# Altium schematic symbol library ic.SchLib: 43 symbols
Pins are listed as number, name and electrical type; pins without a type are passive.

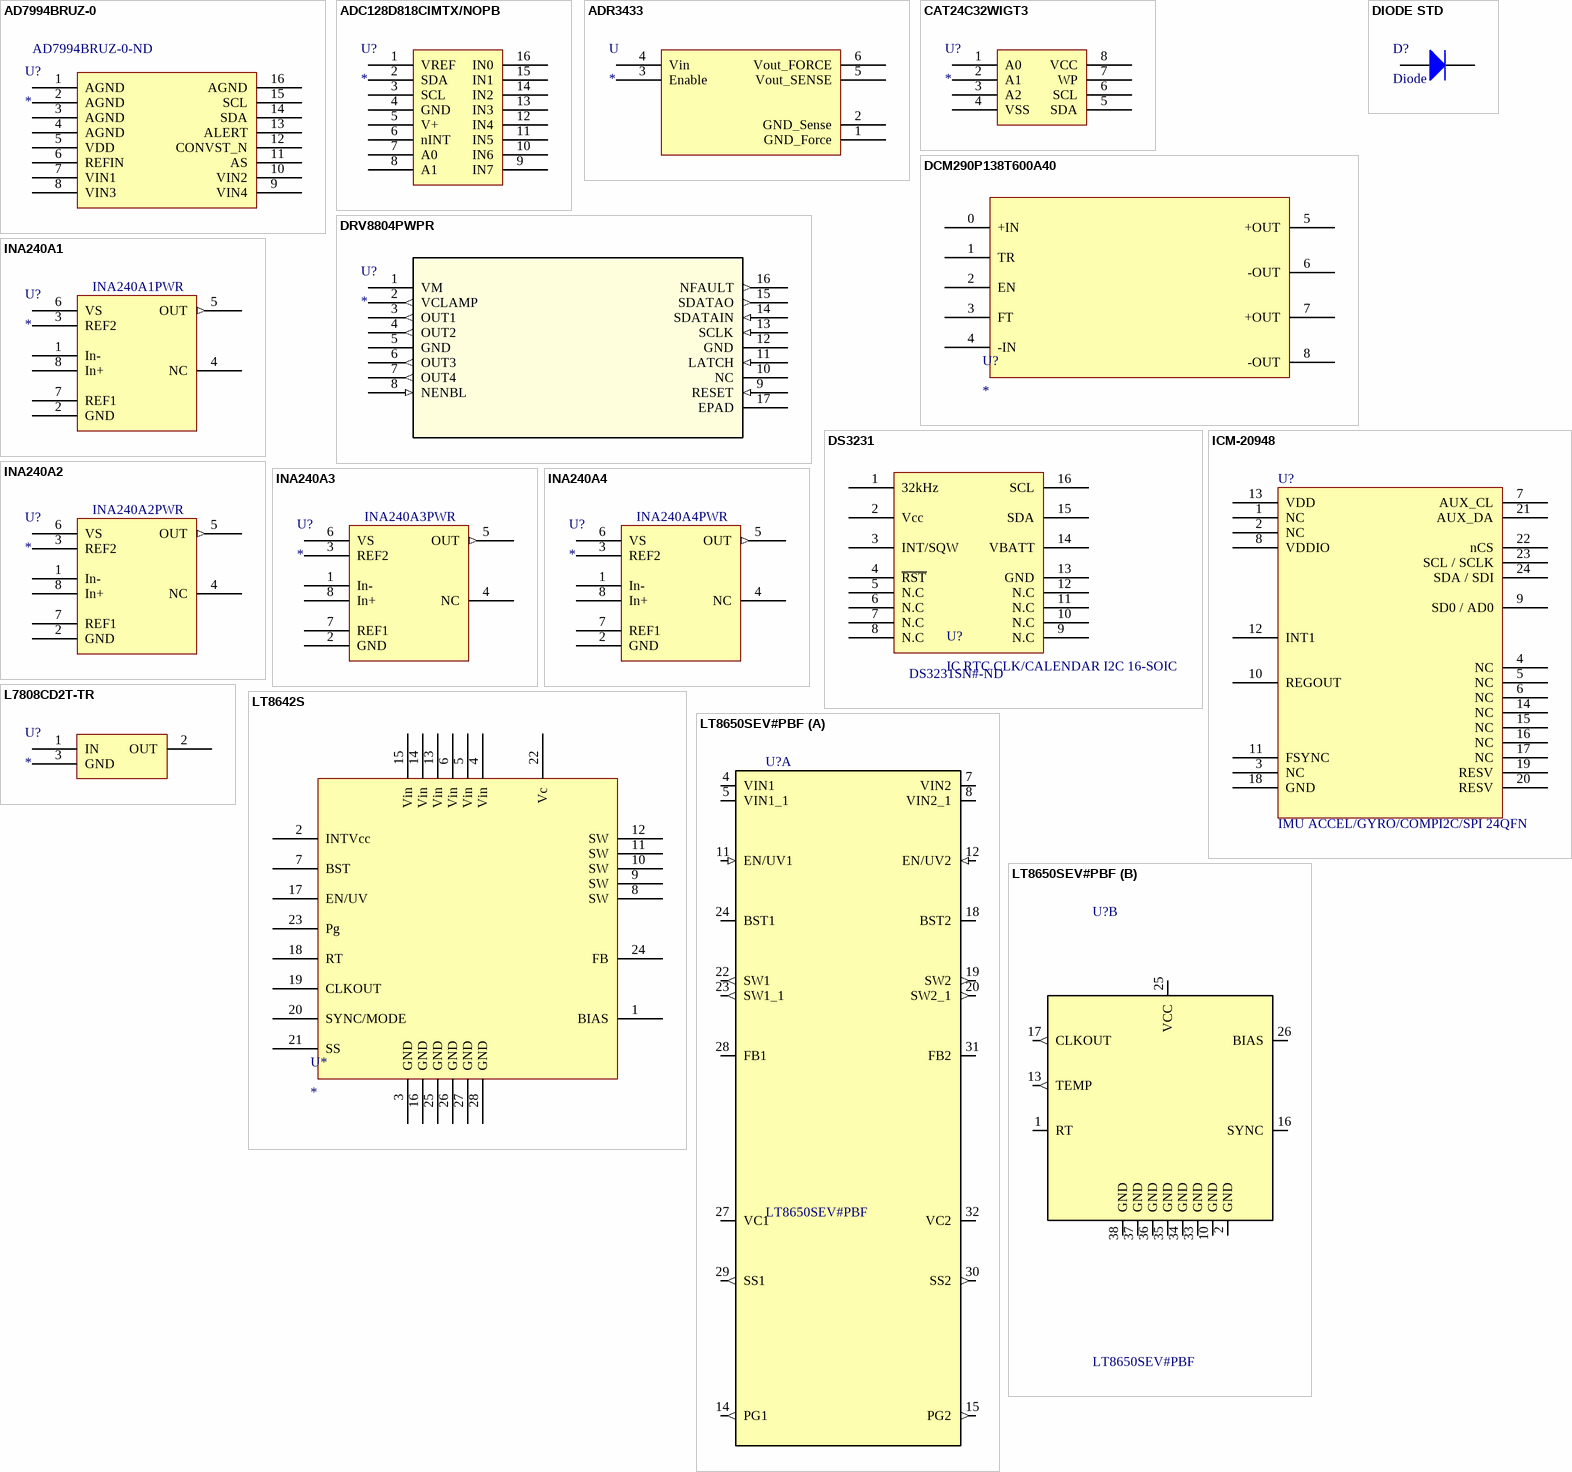
[diagram p0: symbols AD7994BRUZ-0 to LT8650SEV#PBF]

## AD7994BRUZ-0
designator U?  Supplier Part Number 1: AD7994BRUZ-0-ND
ANALOG DEVICES - AD7994BRUZ-0 - 12BIT ADC, 4CH I2C I/F, SMD, 7994; Resolution: 12b; Sampling Rate: 188KS/s; Number of A/D Converters: 1; Number of Analog Inputs: 4; Polarity: Unipolar; Max Power Dissipation: 6.05mW; Max Supply Voltage: 5.5V; Min Supply Voltage: 2.7V; Interface: I2C,2-Wire; Power Consumption: 2.31mW; Signal to Noise Ratio (SNR): 71dB; Number of Bits: 12; Power Dissipation: 6mW; Integral Nonlinearity (INL): 1LSB; Differential Nonlinearity: -0.9LSB; Input Capacitance: 30pF; Min Input Voltage: 1.2V; Full Scale Error: 2LSB; Supply Type: Single; Operating Supply Voltage: 5V; Supplier 1: Digi-Key; Manufacturer: Analog Devices; Manufacturer Part Number: AD7994BRUZ-0; Stock 1: 188; Pricing 1: 1=10.29000, 10=9.29400, 25=8.86160, 100=7.69460, 250=7.34876, 500=6.70034 (USD); RoHS: Yes; Case/Package: TSSOP; Number of Pins: 16; Contact Plating: Tin,Matte; Min Operating Temperature: -40°C; Max Operating Temperature: 85°C; Package Quantity: 96; Number of Channels: 4; Packaging: Rail/Tube; Number of Converters: 1; Number of Inputs: 4; Max Input Voltage: 5.5V; Number of Elements: 1; Length: 5mm; Height: 1.05mm; Width: 4.4mm; Radiation Hardening: No; Lead Free: Contains Lead; REACH SVHC: No SVHC; ComponentLink1URL: https://datasheet.ciiva.com/26799/ad7994bruz-0-26799795.pdf?src-supplier=IIIC; ComponentLink1Description: https://datasheet.ciiva.com/26799/ad7994bruz-0-26799795.pdf?src-supplier=IIIC; ComponentLink2URL: https://datasheet.ciiva.com/1702/1610633-1702675.pdf?src-supplier=Element14; ComponentLink2Description: https://datasheet.ciiva.com/1702/1610633-1702675.pdf?src-supplier=Element14; ComponentLink3URL: https://datasheet.ciiva.com/6664/ad7993-7994-6664968.pdf?src-supplier=Digi-Key; ComponentLink3Description: https://datasheet.ciiva.com/6664/ad7993-7994-6664968.pdf?src-supplier=Digi-Key; ComponentLink4URL: https://datasheet.ciiva.com/15147/getdatasheetpartid-143461-15147723.pdf?src-supplier=Verical; ComponentLink4Description: https://datasheet.ciiva.com/15147/getdatasheetpartid-143461-15147723.pdf?src-supplier=Verical; ComponentLink5URL: https://datasheet.ciiva.com/3037/ad7993-7994-3037820.pdf?src-supplier=Avnet; ComponentLink5Description: https://datasheet.ciiva.com/3037/ad7993-7994-3037820.pdf?src-supplier=Avnet
footprint TSOP65P660X120-16N (TSOP, 16-Leads, Body 5.00x4.40mm, Pitch 0.65mm, IPC Medium Density)
pins: 1 AGND, 2 AGND, 3 AGND, 4 AGND, 5 VDD, 6 REFIN, 7 VIN1, 8 VIN3, 9 VIN4, 10 VIN2, 11 AS, 12 CONVST_N, 13 ALERT, 14 SDA, 15 SCL, 16 AGND

## ADC128D818CIMTX/NOPB
designator U?
Analog to Digital Converters - ADC; Manufacturer: TI National Semiconductor; Manufacturer Part Number: ADC128D818CIMTX/NOPB; Resolution: 12b; Sampling Rate: 10000S/s; Number of A/D Converters: 1; Polarity: Unipolar; Max Supply Voltage: 5.5V; Min Supply Voltage: 3V; Interface: I2C; Number of Channels: 8; Max Power Dissipation: 33mW; Number of Converters: 4; Number of Bits: 12; Integral Nonlinearity (INL): -2LSB; Supply Type: Analog,Digital,Single; Power Consumption: 2mW; Power Dissipation: 2.01mW; Differential Nonlinearity: 1LSB; Supplier 1: Digi-Key; Stock 1: 21177; Pricing 1: 1=4.68000, 10=4.20700, 100=3.44660, 500=2.93402, 1000=2.47447 (USD); RoHS: Yes; Mount: Surface Mount; Case/Package: TSSOP; Number of Pins: 16; Contact Plating: Tin,Matte; Min Operating Temperature: -40°C; Max Operating Temperature: 125°C; Packaging: Tape and Reel; Package Quantity: 2500; Number of Inputs: 8; Number of Elements: 1; Radiation Hardening: No; Lead Free: Lead Free; ComponentLink1URL: https://datasheet.ciiva.com/14259/adc128d818-14259977.pdf?src-supplier=Avnet; ComponentLink1Description: https://datasheet.ciiva.com/14259/adc128d818-14259977.pdf?src-supplier=Avnet; Supplier Part Number 1: 296-41182-1-ND
footprint TSOP65P660X120-16N (TSOP, 16-Leads, Body 5.00x4.40mm, Pitch 0.65mm, IPC Medium Density)
pins: 1 VREF, 2 SDA, 3 SCL, 4 GND, 5 V+, 6 nINT, 7 A0, 8 A1, 9 IN7, 10 IN6, 11 IN5, 12 IN4, 13 IN3, 14 IN2, 15 IN1, 16 IN0

## ADR3433
designator U
IC VREF SERIES 3.3V SOT23-6; Manufacturer: Analog Devices; Manufacturer P/N: ADR3433ARJZ-R7; ComponentLink1Description: Digikey; ComponentLink1URL: https://www.digikey.com/product-detail/en/analog-devices-inc/ADR3433ARJZ-R7/ADR3433ARJZ-R7CT-ND/4909083; Digikey Link: https://www.digikey.com/product-detail/en/analog-devices-inc/ADR3433ARJZ-R7/ADR3433ARJZ-R7CT-ND/4909083; Digikey P/N: ADR3433ARJZ-R7CT-ND
footprint SOT95P280X145-6N (SOT23, 6-Leads, Body 2.90x2.80mm, Pitch 0.95mm, IPC Medium Density)
pins: 1 GND_Force (power), 2 GND_Sense (power), 3 Enable, 4 Vin, 5 Vout_SENSE, 6 Vout_FORCE

## CAT24C32WIGT3
designator U?
IC EEPROM 32K I2C 1MHZ 8SOIC; Manufacturer: ON Semiconductor; Manufacturer Part Number: CAT24C32WIGT3; Interface: I2C,Serial,2-Wire; Min Supply Voltage: 1.7V; Max Supply Voltage: 5.5V; Access Time: 3500ns; Frequency: 400kHz; Nominal Supply Current: 2mA; Density: 32Kb; Number of Words: 4096; Operating Supply Voltage: 5V; Max Frequency: 100kHz; Supplier 1: Newark; Stock 1: 0; RoHS: Yes; Mount: Surface Mount; Case/Package: SOIC; Number of Pins: 8; Contact Plating: Gold; Min Operating Temperature: -40°C; Max Operating Temperature: 85°C; Package Quantity: 1; Packaging: Tape and Reel; Memory Type: EEPROM; Memory Size: 32Kb; Length: 5mm; Height: 1.5mm; Width: 4mm; Radiation Hardening: No; REACH SVHC: No SVHC; Lead Free: Lead Free; Halogen Free: Halogen Free; ComponentLink1URL: https://datasheet.ciiva.com/15123/getdatasheetpartid-144155-15123242.pdf?src-supplier=Verical; ComponentLink1Description: https://datasheet.ciiva.com/15123/getdatasheetpartid-144155-15123242.pdf?src-supplier=Verical; ComponentLink2URL: https://datasheet.ciiva.com/26870/cat24c32wi-gt3-26870507.pdf?src-supplier=IIIC; ComponentLink2Description: https://datasheet.ciiva.com/26870/cat24c32wi-gt3-26870507.pdf?src-supplier=IIIC; ComponentLink3URL: https://datasheet.ciiva.com/1904/cat24c32-d-1904849.pdf?src-supplier=Digi-Key; ComponentLink3Description: https://datasheet.ciiva.com/1904/cat24c32-d-1904849.pdf?src-supplier=Digi-Key; ComponentLink4URL: https://datasheet.ciiva.com/1904/cat24c32-d-1904850.pdf?src-supplier=Digi-Key; ComponentLink4Description: https://datasheet.ciiva.com/1904/cat24c32-d-1904850.pdf?src-supplier=Digi-Key; ComponentLink5URL: https://datasheet.ciiva.com/1904/cat24c32-d-1904851.pdf?src-supplier=Digi-Key; ComponentLink5Description: https://datasheet.ciiva.com/1904/cat24c32-d-1904851.pdf?src-supplier=Digi-Key; ComponentLink6URL: https://datasheet.ciiva.com/16393/cat24c32-d-16393221.pdf?src-supplier=Future+Electronics; ComponentLink6Description: https://datasheet.ciiva.com/16393/cat24c32-d-16393221.pdf?src-supplier=Future+Electronics; ComponentLink7URL: https://datasheet.ciiva.com/16471/cat24c32-d-16471335.pdf?src-supplier=Avnet+Asia; ComponentLink7Description: https://datasheet.ciiva.com/16471/cat24c32-d-16471335.pdf?src-supplier=Avnet+Asia; ComponentLink8URL: https://datasheet.ciiva.com/3185/cat24c32-d-3185118.pdf?src-supplier=Avnet; ComponentLink8Description: https://datasheet.ciiva.com/3185/cat24c32-d-3185118.pdf?src-supplier=Avnet; ComponentLink9URL: https://datasheet.ciiva.com/22618/1696760-22618478.pdf?src-supplier=Element14; ComponentLink9Description: https://datasheet.ciiva.com/22618/1696760-22618478.pdf?src-supplier=Element14; ComponentLink10URL: https://datasheet.ciiva.com/26216/cat24c32-d-26216670.pdf?src-supplier=Avnet+Europe; ComponentLink10Description: https://datasheet.ciiva.com/26216/cat24c32-d-26216670.pdf?src-supplier=Avnet+Europe; Supplier Part Number 1: 06R0561
footprint SOP127P600X175-8N (SOP, 8-Leads, Body 4.91x3.90mm, Pitch 1.27mm, IPC Medium Density)
pins: 1 A0, 2 A1, 3 A2, 4 VSS, 5 SDA, 6 SCL, 7 WP, 8 VCC

## DCM290P138T600A40
designator U?
DC DC CONVERTER 13.8V 600W; Manufacturer: Vicor; Manufacturer P/N: DCM290P138T600A40; Digikey Link: https://www.digikey.com/product-detail/en/vicor-corporation/DCM290P138T600A40/1102-5388-ND/4860626; Digikey P/N: 1102-5388-ND
footprint DCM290y138x600A40
pins: 0 +IN, 1 TR, 2 EN, 3 FT, 4 -IN, 5 +OUT, 6 -OUT, 7 +OUT, 8 -OUT

## DIODE STD
designator D?, comment Diode
DIODE GEN PURP 200V 2A SOD123FL; Manufacturer: ON SEMI; Manufacturer P/N: NHP220SFT3G; Digikey Link: https://www.digikey.com/product-detail/en/on-semiconductor/NHP220SFT3G/NHP220SFT3GOSCT-ND/5801747; Digikey P/N: NHP220SFT3GOSCT-ND
footprint SODFL360X110-2N (SODFL, 2-Leads, Body 1.65x3.60mm, IPC Medium Density)
pins: 1 A, 2 K

## DRV8804PWPR
designator U?
IC MOTOR DRIVER SERIAL 16HTSSOP; Manufacturer: Texas Instruments; Manufacturer P/N: DRV8804PWPR; Built_By: EMA_UL_Team; C: Copyright (C) 2015 Accelerated Designs. All rights reserved; RefDes: RefDes; Type: DEV; Value: Value; Digikey P/N: 296-36584-1-ND; Digikey Link: https://www.digikey.sg/product-detail/en/texas-instruments/DRV8804PWPR/296-36584-1-ND/4341280
footprint PWP16_3P4X2P46-M
pins: 1 VM (power), 2 VCLAMP (out), 3 OUT1 (out), 4 OUT2 (out), 5 GND (power), 6 OUT3 (out), 7 OUT4 (out), 8 NENBL (in), 9 RESET (in), 10 NC, 11 LATCH (in), 12 GND (power), 13 SCLK (in), 14 SDATAIN (in), 15 SDATAO (out), 16 NFAULT (out), 17 EPAD

## DS3231
designator U?, comment IC RTC CLK/CALENDAR I2C 16-SOIC  Supplier Part Number 1: DS3231SN#-ND
Manufacturer: Maxim; Manufacturer Part Number: DS3231SN#; Max Supply Voltage: 5.5V; Min Supply Voltage: 2.3V; Logic Function: Clock; Time Format: HH:MM:SS; Date Format: YY-MM-DD-dd; Operating Supply Voltage: 3.3V; Interface: I2C,Serial,2-Wire; Number of Outputs: 1; Frequency: 32.768kHz; Supplier 1: Digi-Key; Stock 1: 2824; Pricing 1: 1=9.61, 10=8.685, 25=8.2812, 100=7.1906, 250=6.8674, 500=6.26146, 1000=5.45353 (USD); Mount: Surface Mount; Case/Package: SOIC; Number of Pins: 16; Weight: 0.023492oz; Min Operating Temperature: -40°C; Max Operating Temperature: 85°C; Package Quantity: 46; Packaging: Bulk; Termination: SMD/SMT; Length: 10.5mm; Height: 2.35mm; Width: 7.6mm; Radiation Hardening: No; REACH SVHC: Unknown; Lead Free: Lead Free; ComponentLink1URL: https://datasheets.maximintegrated.com/en/ds/DS3231-DS3231S.pdf?src-supplier=Digi-Key; ComponentLink1Description: https://datasheets.maximintegrated.com/en/ds/DS3231-DS3231S.pdf?src-supplier=Digi-Key; ComponentLink2URL: http://datasheets.maxim-ic.com/en/ds/DS3231.pdf?src-supplier=Avnet+Europe; ComponentLink2Description: http://datasheets.maxim-ic.com/en/ds/DS3231.pdf?src-supplier=Avnet+Europe; ComponentLink3URL: http://www.farnell.com/datasheets/1675711.pdf?src-supplier=Element14; ComponentLink3Description: http://www.farnell.com/datasheets/1675711.pdf?src-supplier=Element14; ComponentLink4URL: http://www.mouser.com/ds/2/256/DS3231-102175.pdf?src-supplier=Mouser; ComponentLink4Description: http://www.mouser.com/ds/2/256/DS3231-102175.pdf?src-supplier=Mouser; ComponentLink5URL: http://datasheets.maximintegrated.com/en/ds/DS3231.pdf?src-supplier=Avnet; ComponentLink5Description: http://datasheets.maximintegrated.com/en/ds/DS3231.pdf?src-supplier=Avnet; ComponentLink6URL: http://datasheet.iiic.cc/maxim/DS3231SN_.pdf?src-supplier=IIIC; ComponentLink6Description: http://datasheet.iiic.cc/maxim/DS3231SN_.pdf?src-supplier=IIIC
footprint SOP127P1030X265-16N (SOP, 16-Leads, Body 11.55x7.50mm, Pitch 1.27mm, IPC Medium Density)
pins: 1 32kHz, 2 Vcc, 3 INT/SQW, 4 ~{RST}, 5 N.C, 6 N.C, 7 N.C, 8 N.C, 9 N.C, 10 N.C, 11 N.C, 12 N.C, 13 GND, 14 VBATT, 15 SDA, 16 SCL

## ICM-20948
designator U?, comment IMU ACCEL/GYRO/COMPI2C/SPI 24QFN
Manufacturer: TDK InvenSense; Manufacturer P/N: ICM-20948; Digikey Link: https://www.digikey.com/product-detail/en/tdk-invensense/ICM-20948/1428-1123-1-ND/7062698; Digikey P/N: 1428-1123-1-ND
footprint QFN40P300X300X105-25N
footprint QFN40P300X300X105_HS-25N (QFN, 24-Leads, Body 3.00x3.00mm, Pitch 0.40mm, Thermal Pad 1.70x1.54mm, IPC Medium Density)
pins: 1 NC, 2 NC, 3 NC, 4 NC, 5 NC, 6 NC, 7 AUX_CL, 8 VDDIO, 9 SD0 / AD0, 10 REGOUT, 11 FSYNC, 12 INT1, 13 VDD, 14 NC, 15 NC, 16 NC, 17 NC, 18 GND, 19 RESV, 20 RESV, 21 AUX_DA, 22 nCS, 23 SCL / SCLK, 24 SDA / SDI

## INA240A1
designator U?  Manufacturer P/N: INA240A1PWR
IC AMP CURRENT SENSE 8-TSSOP 20V/V; Manufacturer: TI; Number of Circuits: 1; Slew Rate: 2V/µs; -3db Bandwidth: 400kHz; Input Bias Current: 90uA; Input Offset Voltage (Vos): 5uV; Operating Supply Current: 1.8mA; Digikey P/N: 296-45088-1-ND; Digikey Link: https://www.digikey.com/product-detail/en/texas-instruments/INA240A1PWR/296-45088-1-ND/6562101; Supplier 1: Digi-Key; Manufacturer Part Number: INA240A1PWR; Stock 1: 19438; Pricing 1: 1=2.65, 10=2.377, 25=2.2428, 100=1.7943, 250=1.56996, 500=1.52512, 1000=1.21113 (USD); Mount: Surface Mount; Case/Package: TSSOP; Min Operating Temperature: -40°C; Max Operating Temperature: 125°C; Packaging: Tape and Reel; Lead Free: Lead Free; ComponentLink1URL: http://www.ti.com/lit/ds/symlink/ina240.pdf?src-supplier=Farnell; ComponentLink1Description: http://www.ti.com/lit/ds/symlink/ina240.pdf?src-supplier=Farnell; ComponentLink2URL: http://www.ti.com/lit/ds/symlink/ina240.pdf?src-supplier=Digi-Key; ComponentLink2Description: http://www.ti.com/lit/ds/symlink/ina240.pdf?src-supplier=Digi-Key; ComponentLink3URL: http://www.ti.com/lit/ds/symlink/ina240.pdf?src-supplier=Newark; ComponentLink3Description: http://www.ti.com/lit/ds/symlink/ina240.pdf?src-supplier=Newark; Supplier Part Number 1: 296-45088-6-ND
footprint SOIC127P600X175-8N (SOIC, 8-Leads, Body 4.90x3.90mm, Pitch 1.27mm, IPC Medium Density)
pins: 1 In-, 2 GND (power), 3 REF2, 4 NC, 5 OUT (out), 6 VS (power), 7 REF1, 8 In+

## INA240A2
designator U?  Manufacturer Part Number: INA240A2PWR
IC AMP CURRENT SENSE 8-TSSOP 50V/V; Manufacturer: Texas Instruments; Number of Circuits: 1; Slew Rate: 2V/µs; -3db Bandwidth: 400kHz; Input Bias Current: 90uA; Input Offset Voltage (Vos): 5uV; Operating Supply Current: 1.8mA; Supplier 1: Digi-Key; Stock 1: 10118; Pricing 1: 1=2.65, 10=2.377, 25=2.2428, 100=1.7943, 250=1.56996, 500=1.52512, 1000=1.21113 (USD); Mount: Surface Mount; Case/Package: TSSOP; Number of Pins: 8; Min Operating Temperature: -40°C; Max Operating Temperature: 125°C; Packaging: Tape and Reel; Lead Free: Lead Free; ComponentLink1URL: http://www.ti.com/lit/ds/symlink/ina240.pdf?src-supplier=Digi-Key; ComponentLink1Description: http://www.ti.com/lit/ds/symlink/ina240.pdf?src-supplier=Digi-Key; ComponentLink2URL: http://www.ti.com/general/docs/lit/getliterature.tsp?genericPartNumber=INA240&fileType=pdf&src-supplier=Farnell; ComponentLink2Description: http://www.ti.com/general/docs/lit/getliterature.tsp?genericPartNumber=INA240&fileType=pdf&src-supplier=Farnell; Supplier Part Number 1: 296-45089-1-ND
footprint SOIC127P600X175-8N (SOIC, 8-Leads, Body 4.90x3.90mm, Pitch 1.27mm, IPC Medium Density)
pins: 1 In-, 2 GND (power), 3 REF2, 4 NC, 5 OUT (out), 6 VS (power), 7 REF1, 8 In+

## INA240A3
designator U?  Manufacturer Part Number: INA240A3PWR
IC AMP CURRENT SENSE 8-TSSOP 100V/V; Manufacturer: Texas Instruments; Number of Circuits: 1; Slew Rate: 2V/µs; -3db Bandwidth: 400kHz; Input Bias Current: 90uA; Input Offset Voltage (Vos): 5uV; Operating Supply Current: 1.8mA; Supplier 1: Digi-Key; Stock 1: 4680; Pricing 1: 1=2.65, 10=2.377, 25=2.2428, 100=1.7943, 250=1.56996, 500=1.52512, 1000=1.21113 (USD); Mount: Surface Mount; Case/Package: TSSOP; Number of Pins: 8; Min Operating Temperature: -40°C; Max Operating Temperature: 125°C; Packaging: Tape and Reel; ComponentLink1URL: http://www.ti.com/general/docs/lit/getliterature.tsp?genericPartNumber=INA240&fileType=pdf&src-supplier=Farnell; ComponentLink1Description: http://www.ti.com/general/docs/lit/getliterature.tsp?genericPartNumber=INA240&fileType=pdf&src-supplier=Farnell; ComponentLink2URL: http://www.ti.com/lit/ds/symlink/ina240.pdf?src-supplier=Digi-Key; ComponentLink2Description: http://www.ti.com/lit/ds/symlink/ina240.pdf?src-supplier=Digi-Key; Supplier Part Number 1: 296-45090-1-ND
footprint SOIC127P600X175-8N (SOIC, 8-Leads, Body 4.90x3.90mm, Pitch 1.27mm, IPC Medium Density)
pins: 1 In-, 2 GND (power), 3 REF2, 4 NC, 5 OUT (out), 6 VS (power), 7 REF1, 8 In+

## INA240A4
designator U?  Manufacturer Part Number: INA240A4PWR
IC AMP CURRENT SENSE 8-TSSOP 200V/V; Manufacturer: Texas Instruments; Supplier 1: Digi-Key; Stock 1: 1250; Pricing 1: 1=2.65, 10=2.377, 25=2.2428, 100=1.7943, 250=1.56996, 500=1.52512, 1000=1.21113 (USD); Case/Package: TSSOP; Number of Pins: 8; Min Operating Temperature: -40°C; Max Operating Temperature: 125°C; Lead Free: Lead Free; ComponentLink1URL: http://www.ti.com/lit/ds/symlink/ina240.pdf?src-supplier=Digi-Key; ComponentLink1Description: http://www.ti.com/lit/ds/symlink/ina240.pdf?src-supplier=Digi-Key; ComponentLink2URL: http://www.ti.com/general/docs/suppproductinfo.tsp?distId=10&amp;gotoUrl=http%3A%2F%2Fwww.ti.com%2Flit%2Fgpn%2Fina240&src-supplier=Digi-Key; ComponentLink2Description: http://www.ti.com/general/docs/suppproductinfo.tsp?distId=10&amp;gotoUrl=http%3A%2F%2Fwww.ti.com%2Flit%2Fgpn%2Fina240&src-supplier=Digi-Key; Supplier Part Number 1: 296-45091-1-ND
footprint SOIC127P600X175-8N (SOIC, 8-Leads, Body 4.90x3.90mm, Pitch 1.27mm, IPC Medium Density)
pins: 1 In-, 2 GND (power), 3 REF2, 4 NC, 5 OUT (out), 6 VS (power), 7 REF1, 8 In+

## L7808CD2T-TR
designator U?
IC REG LINEAR 8V 1.5A D2PAK; Manufacturer: STMicroelectronics; Manufacturer Part Number: L7808CD2T-TR; Number of Outputs: 1; Max Input Voltage: 35V; Polarity: Positive; Quiescent Current: 8mA; Output Type: Fixed; Dropout Voltage: 2V; Min Input Voltage: 10V; Power Supply Rejection Ratio (PSRR): 56dB; Supplier 1: Digi-Key; Stock 1: 2402; Pricing 1: 1=0.71000, 10=0.62500, 100=0.47950, 500=0.37904 (USD); RoHS: Yes; Mount: Surface Mount; Case/Package: TO-263; Number of Pins: 3; Min Operating Temperature: 0°C; Max Operating Temperature: 125°C; Max Output Current: 1.5A; Output Voltage: 8V; Packaging: Tape and Reel; Output Current: 1.5A; Package Quantity: 1; Number of Regulators: 1; Min Output Voltage: 8V; Length: 10.4mm; Height: 4.6mm; Width: 9.35mm; Radiation Hardening: No; Lead Free: Lead Free; ComponentLink1URL: https://datasheet.ciiva.com/3224/cd00000444-3224949.pdf?src-supplier=Avnet; ComponentLink1Description: https://datasheet.ciiva.com/3224/cd00000444-3224949.pdf?src-supplier=Avnet; ComponentLink2URL: https://datasheet.ciiva.com/1160/1696820-1160326.pdf?src-supplier=Element14; ComponentLink2Description: https://datasheet.ciiva.com/1160/1696820-1160326.pdf?src-supplier=Element14; ComponentLink3URL: https://datasheet.ciiva.com/16592/cd00000444-16592985.pdf?src-supplier=Avnet+Europe; ComponentLink3Description: https://datasheet.ciiva.com/16592/cd00000444-16592985.pdf?src-supplier=Avnet+Europe; ComponentLink4URL: https://datasheet.ciiva.com/2042/cd00000444-2042986.pdf?src-supplier=Digi-Key; ComponentLink4Description: https://datasheet.ciiva.com/2042/cd00000444-2042986.pdf?src-supplier=Digi-Key; ComponentLink5URL: https://datasheet.ciiva.com/2042/cd00000444-2042987.pdf?src-supplier=Digi-Key; ComponentLink5Description: https://datasheet.ciiva.com/2042/cd00000444-2042987.pdf?src-supplier=Digi-Key; ComponentLink6URL: https://datasheet.ciiva.com/2042/cd00000444-2042988.pdf?src-supplier=Digi-Key; ComponentLink6Description: https://datasheet.ciiva.com/2042/cd00000444-2042988.pdf?src-supplier=Digi-Key; ComponentLink7URL: https://datasheet.ciiva.com/16210/cd00000444-16210797.pdf?src-supplier=Future+Electronics; ComponentLink7Description: https://datasheet.ciiva.com/16210/cd00000444-16210797.pdf?src-supplier=Future+Electronics; ComponentLink8URL: https://datasheet.ciiva.com/4882/cd00000444-4882654.pdf?src-supplier=Mouser; ComponentLink8Description: https://datasheet.ciiva.com/4882/cd00000444-4882654.pdf?src-supplier=Mouser; Supplier Part Number 1: 497-1174-1-ND
footprint DPAK254P1542X440-3N (D2-PAK, 3-Pads, Body 7.78x8.56mm (max), IPC Medium Density)
pins: 1 IN, 2 OUT, 3 GND

## LT8642S
designator U*
18V, 10A Synchronous / Step-Down Silent Switcher 2
footprint QFN50P400X400X72_HS-25N (QFN, 24-Leads, Body 4.00x4.00mm, Pitch 0.50mm, Thermal Pad 2.45x2.45mm, IPC Medium Density)
pins: 1 BIAS, 2 INTVcc, 3 GND (power), 4 Vin (power), 5 Vin (power), 6 Vin (power), 7 BST, 8 SW, 9 SW, 10 SW, 11 SW, 12 SW, 13 Vin (power), 14 Vin (power), 15 Vin (power), 16 GND (power), 17 EN/UV, 18 RT, 19 CLKOUT, 20 SYNC/MODE, 21 SS, 22 Vc, 23 Pg, 24 FB, 25 GND (power), 26 GND (power), 27 GND (power), 28 GND (power)

## LT8650SEV#PBF
designator U?
LT8650S - Dual Channel 4A, 42V, Synchronous Step-Down Silent Switcher 2 with 6.2ÂµA Quiescent Current; MF: Linear Technology; MP: LT8650SEV#PBF; SnapEDA_Link: https://www.snapeda.com/parts/LT8650SEV%23PBF/Linear%20Technology/Analog%20Devices/view-part/?ref=snap; Digi-Key_Part_Number: LT8650SEV#PBF-ND; Package: LQFN-32 Linear Technology; Digi-Key_Purchase_URL: https://www.digikey.com/product-detail/en/linear-technology-analog-devices/LT8650SEV-PBF/LT8650SEV-PBF-ND/7702365?utm_source=snapeda&utm_medium=aggregator&utm_campaign=symbol; Value: *
footprint QFN50P600X400X103-32N240X440
part A pins: 4 VIN1 (power), 5 VIN1_1 (power), 7 VIN2 (power), 8 VIN2_1 (power), 11 EN/UV1 (in), 12 EN/UV2 (in), 14 PG1 (out), 15 PG2 (out), 18 BST2 (io), 19 SW2 (out), 20 SW2_1 (out), 22 SW1 (out), 23 SW1_1 (out), 24 BST1 (io), 27 VC1 (power), 28 FB1 (io), 29 SS1 (out), 30 SS2 (out), 31 FB2 (io), 32 VC2 (power)
part B pins: 1 RT, 2 GND, 10 GND, 13 TEMP (out), 16 SYNC, 17 CLKOUT (out), 25 VCC, 26 BIAS (io), 33 GND, 34 GND, 35 GND, 36 GND, 37 GND, 38 GND

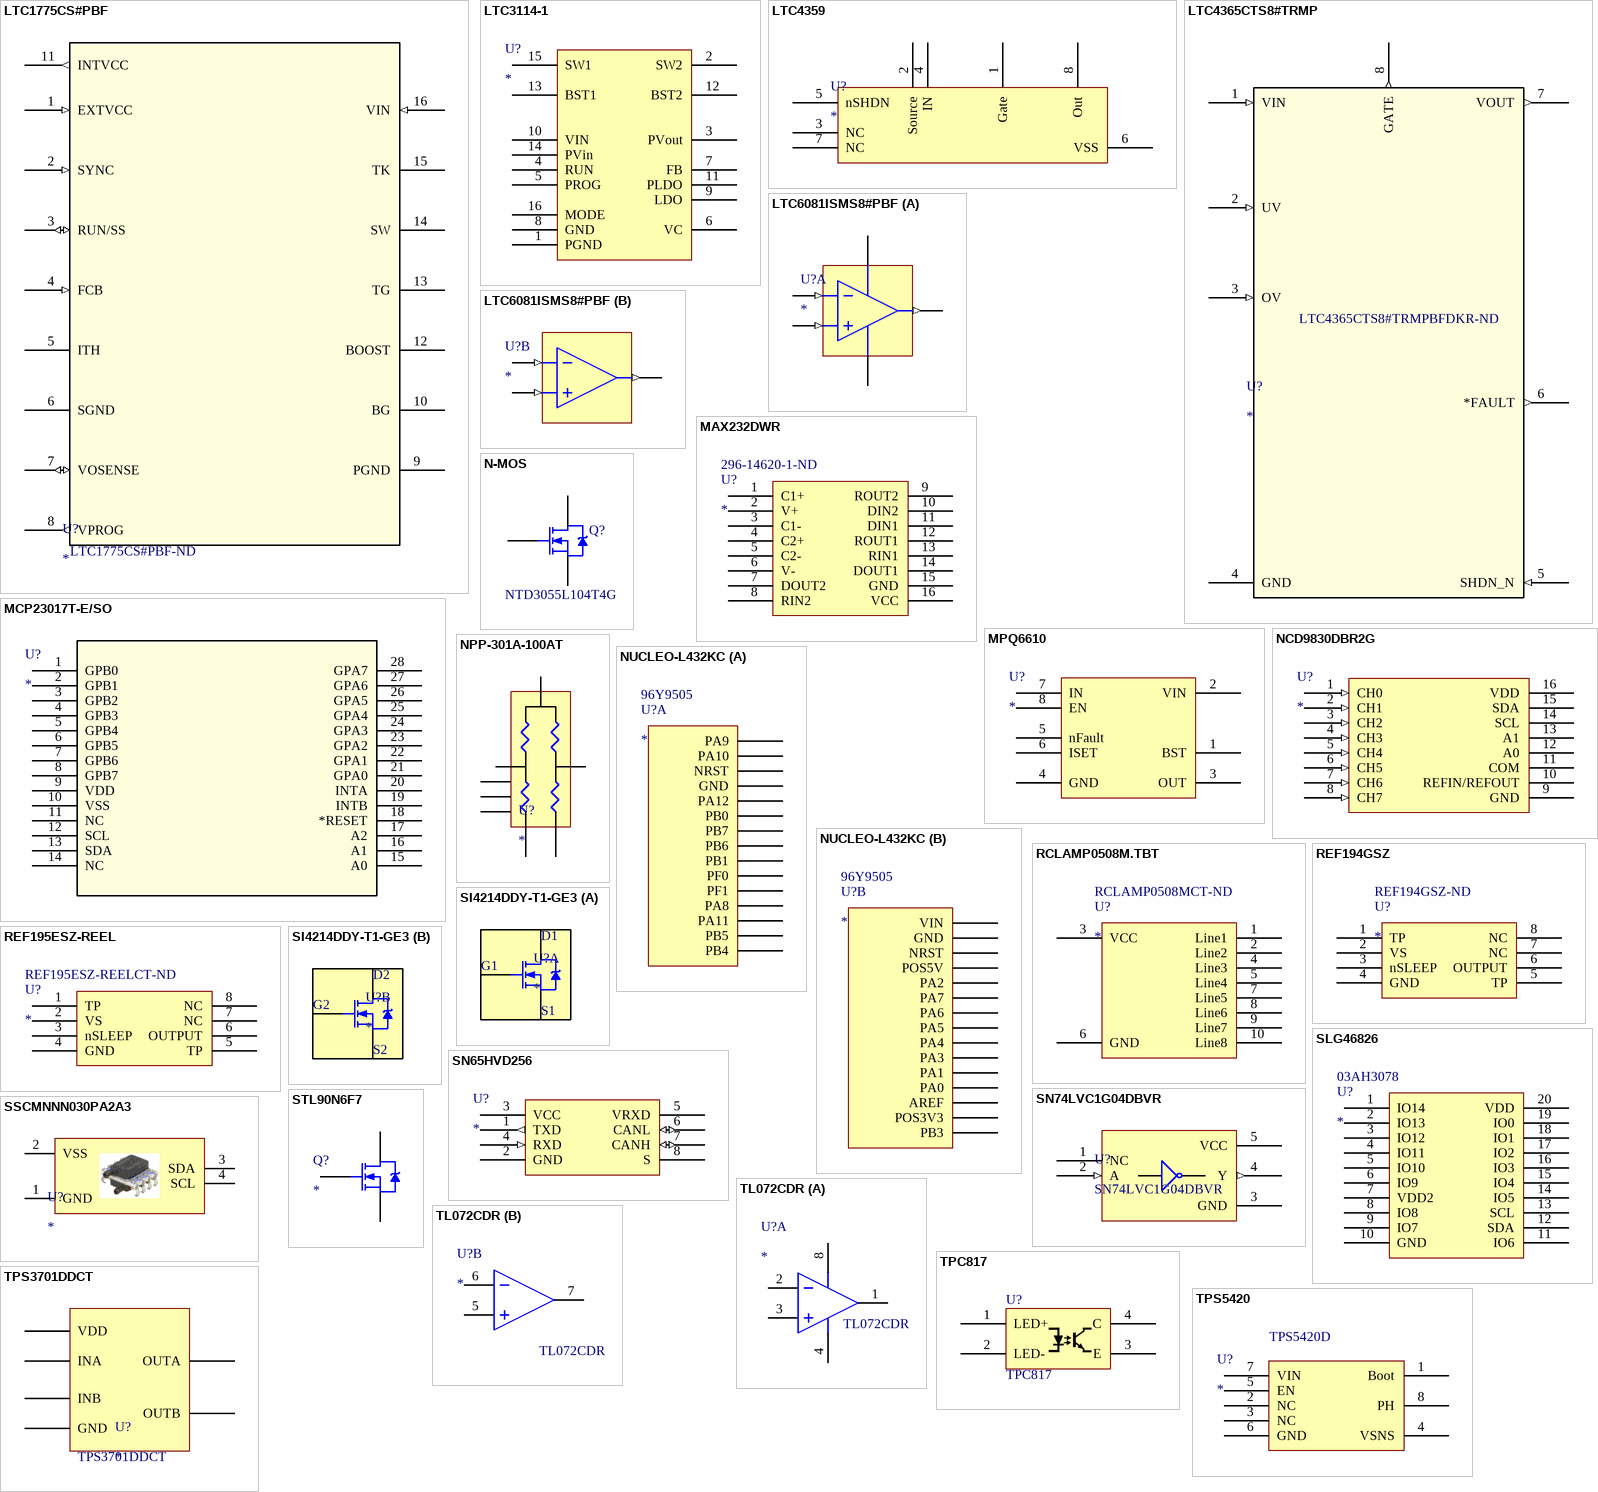
[diagram p1: symbols LTC1775CS#PBF to TPS5420]

## LTC1775CS#PBF
designator U?  Supplier Part Number 1: LTC1775CS#PBF-ND
Buck, Buck-Boost Regulator Positive or Negative Output Step-Down, Step-Up/Step-Down DC-DC Controller IC 16-SOIC; Manufacturer_Part_Number: LTC1775CS#PBF; Vendor: Linear Technology; RefDes: RefDes; Type: DEV; Value: Value; Supplier 1: Digi-Key
footprint SO-16_S
pins: 1 EXTVCC (in), 2 SYNC (in), 3 RUN/SS (io), 4 FCB (in), 5 ITH, 6 SGND (power), 7 VOSENSE (io), 8 VPROG (out), 9 PGND (power), 10 BG, 11 INTVCC (out), 12 BOOST, 13 TG, 14 SW, 15 TK, 16 VIN (in)

## LTC3114-1
designator U?
40V, 1A Synchronous Buck-Boost DC/DC Converter with Programmable Output Current; Manufacturer: Analog Devices / Linear Technology; Manufacturer Part Number: LTC3114EFE-1#TRPBF; Number of Outputs: 1; Min Input Voltage: 2.2V; Min Output Voltage: 2.7V; Switching Frequency: 1.2MHz; Synchronous Rectifier: Yes; Efficiency: 96%; Output Type: Adjustable; Output Configuration: Positive; Supplier 1: Digi-Key; Stock 1: 2151; Pricing 1: 1=10.01000, 25=7.35000, 100=5.49400, 250=5.21932, 500=5.10160 (USD); RoHS: Yes; Mount: Surface Mount; Case/Package: TSSOP; Number of Pins: 16; Min Operating Temperature: -40°C; Max Operating Temperature: 125°C; Packaging: Tape and Reel; Max Input Voltage: 40V; Max Output Voltage: 40V; Output Current: 1A; Output Voltage: 2.7V; Topology: Buck-Boost; ComponentLink1URL: http://components.arrow.com/part/dataview/66446920S858405N7433?src-supplier=Arrow; ComponentLink1Description: http://components.arrow.com/part/dataview/66446920S858405N7433?src-supplier=Arrow; ComponentLink2URL: http://www.linear.com/docs/44756?src-supplier=Digi-Key; ComponentLink2Description: http://www.linear.com/docs/44756?src-supplier=Digi-Key; Supplier Part Number 1: LTC3114EFE-1#TRPBFCT-ND
footprint TSOP65P640X110_HS-17N (TSOP, 16-Leads, Body 5.00x4.40mm, Pitch 0.65mm, Thermal Pad 3.58x2.94mm, IPC Medium Density)
pins: 1 PGND, 2 SW2, 3 PVout, 4 RUN, 5 PROG, 6 VC, 7 FB, 8 GND, 9 LDO, 10 VIN, 11 PLDO, 12 BST2, 13 BST1, 14 PVin, 15 SW1, 16 MODE

## LTC4359
designator U?
IC OR CTRLR N+1 8MSOP; Manufacturer: Analog Devices; Manufacturer P/N: LTC4359; Digikey Link: https://www.digikey.com/product-detail/en/linear-technology-analog-devices/LTC4359HMS8-TRPBF/LTC4359HMS8-TRPBFCT-ND/8275335; Digikey P/N: LTC4359HMS8#TRPBFCT-ND
footprint 8SOP
pins: 1 Gate, 2 Source, 3 NC, 4 IN, 5 nSHDN, 6 VSS, 7 NC, 8 Out

## LTC4365CTS8#TRMP
designator U?  Supplier Part Number 1: LTC4365CTS8#TRMPBFDKR-ND
Overvoltage, / Undervoltage and Reverse / Supply Protection Controller; Manufacturer_Part_Number: LTC4365CTS8#TRMPBF; Vendor: Linear Technology; RefDes: RefDes; Type: DEV; Value: Value; Supplier 1: Digi-Key
footprint TSOT-23_TS8
pins: 1 VIN (in), 2 UV (in), 3 OV (in), 4 GND (power), 5 SHDN_N (in), 6 *FAULT (out), 7 VOUT (out), 8 GATE (out)

## LTC6081ISMS8#PBF
designator U?
IC OPAMP GP 3.5MHZ RRO 8MSOP; Manufacturer: Linear Technology; Manufacturer P/N: LTC6081IMS8#PBF; Digikey Link: https://www.digikey.com/product-detail/en/linear-technology-analog-devices/LTC6081IMS8-PBF/LTC6081IMS8-PBF-ND/1650931; Digikey P/N: LTC6081IMS8#PBF-ND
footprint TSOP65P490X110-8N (TSOP, 8-Leads, Body 3.00x3.00mm, Pitch 0.65mm, IPC Medium Density)
part A pins: 1 OUT (out), 2 IN- (in), 3 IN+ (in), 4 V- (power), 8 V+ (power)
part B pins: 5 IN+ (in), 6 IN- (in), 7 OUT (out)

## MAX232DWR
designator U?  Supplier Part Number 1: 296-14620-1-ND
IC DRVR/RCVR MULTCH RS232 16SOIC; Manufacturer: Texas Instruments; Manufacturer Part Number: MAX232DWR; Nominal Supply Current: 10mA; Data Rate: 120Kbps; Number of Drivers: 2; Operating Supply Voltage: 5V; Min Supply Voltage: 4.5V; Max Supply Voltage: 5.5V; Logic Function: Transceiver,Receiver; Number of Transceivers: 1; Simplex/Duplex: Full Duplex; Supplier 1: Digi-Key; Stock 1: 5901; Pricing 1: 1=1.16, 10=1.036, 100=0.7551, 500=0.63222, 1000=0.49172 (USD); Mount: Surface Mount; Case/Package: SOIC; Number of Pins: 16; Weight: 0.014829oz; Min Operating Temperature: -40°C; Max Operating Temperature: 85°C; Packaging: Tape and Reel; Package Quantity: 2000; Number of Receivers: 2; Number of Transmitters: 2; Length: 10.28mm; Height: 2.35mm; Width: 7.52mm; Radiation Hardening: No; Lead Free: Lead Free; REACH SVHC: No SVHC; ComponentLink1URL: http://www.ti.com/lit/ds/symlink/max232.pdf?src-supplier=Digi-Key; ComponentLink1Description: http://www.ti.com/lit/ds/symlink/max232.pdf?src-supplier=Digi-Key; ComponentLink2URL: http://datasheet.iiic.cc/texas_instruments/MAX232DWR.pdf?src-supplier=IIIC; ComponentLink2Description: http://datasheet.iiic.cc/texas_instruments/MAX232DWR.pdf?src-supplier=IIIC
footprint SOP127P1060X175-16N (SOP, 16-Leads, Body 10.50x7.50mm, Pitch 1.27mm, IPC Medium Density)
pins: 1 C1+, 2 V+, 3 C1-, 4 C2+, 5 C2-, 6 V-, 7 DOUT2, 8 RIN2, 9 ROUT2, 10 DIN2, 11 DIN1, 12 ROUT1, 13 RIN1, 14 DOUT1, 15 GND, 16 VCC

## MCP23017T-E/SO
designator U?
IC I/O EXPANDER I2C 16B 28SOIC; Manufacturer: Microchip; Manufacturer P/N: MCP23017T-E/SO; Digikey P/N: MCP23017T-E/SOCT-ND; Digikey Link: https://www.digikey.com/product-detail/en/microchip-technology/MCP23017T-E-SO/MCP23017T-E-SOCT-ND/5358289
footprint SOIC28-W_MC-M
pins: 1 GPB0, 2 GPB1, 3 GPB2, 4 GPB3, 5 GPB4, 6 GPB5, 7 GPB6, 8 GPB7, 9 VDD, 10 VSS, 11 NC, 12 SCL, 13 SDA, 14 NC, 15 A0, 16 A1, 17 A2, 18 *RESET, 19 INTB, 20 INTA, 21 GPA0, 22 GPA1, 23 GPA2, 24 GPA3, 25 GPA4, 26 GPA5, 27 GPA6, 28 GPA7

## MPQ6610
designator U?
High Performance Solenoid Driver
footprint SOP127P600X175-8N (SOP, 8-Leads, Body 4.91x3.90mm, Pitch 1.27mm, IPC Medium Density)
pins: 1 BST, 2 VIN, 3 OUT, 4 GND, 5 nFault, 6 ISET (power), 7 IN, 8 EN (power)

## N-MOS
designator Q?  Manufacturer P/N: NTD3055L104T4G
N-Channel Power MOSFET, 12 A, 60 V; Manufacturer: ON SEMI; Digikey Link: https://www.digikey.com/product-detail/en/on-semiconductor/NTD3055L104T4G/NTD3055L104T4GOSDKR-ND/1749196; Digikey P/N: NTD3055L104T4GOSDKR-ND
footprint DPAK228P991X238-3N (D-PAK, 3-Pads, Body 6.21x6.54mm (max), IPC Medium Density)
pins: 1 G, 3 S, 4 D

## NCD9830DBR2G
designator U?
IC ADC 8BIT 8CH I2C 16TSSOP; Manufacturer: ON Semiconductor; Manufacturer P/N: NCD9830DBR2G; Digikey P/N: NCD9830DBR2GOSCT-ND; Digikey Link: https://www.digikey.com/product-detail/en/on-semiconductor/NCD9830DBR2G/NCD9830DBR2GOSCT-ND/9086945; Cost: 2.70
pins: 1 CH0 (in), 2 CH1 (in), 3 CH2 (in), 4 CH3 (in), 5 CH4 (in), 6 CH5 (in), 7 CH6 (in), 8 CH7 (in), 9 GND (power), 10 REFIN/REFOUT (power), 11 COM (power), 12 A0, 13 A1, 14 SCL, 15 SDA, 16 VDD (power)

## NPP-301A-100AT
designator U?
SENSOR PRES 15PSIA SO8 SMD; Manufacturer: Amphenol Advanced Sensors; Manufacturer P/N: NPP-301A-100AT; Pressure Range: 0-15PSI; Digikey Link: https://www.digikey.com/product-detail/en/amphenol-advanced-sensors/NPP-301A-100AT/235-1492-1-ND/7322895; Digikey P/N: 235-1492-1-ND
footprint SOIC127P610X280-8N (SOIC, 8-Leads, Body 5.10x4.10mm, Pitch 1.27mm, IPC Medium Density)
pins: 1, 2, 3, 4, 5, 6, 7, 8

## NUCLEO-L432KC
designator U?  Supplier Part Number 2: 96Y9505
BOARD NUCLEO STM32F303K8T6; Manufacturer: STMicroelectronics; Manufacturer Part Number: NUCLEO-L432KC; Evaluation Kit: Yes; Number of Bits: 32; Core Architecture: ARM; Supplier 1: Digi-Key; Stock 1: 171; Pricing 1: 1=10.99000 (USD); RoHS: Yes; REACH SVHC: No SVHC; Lead Free: Lead Free; ComponentLink1URL: http://www.farnell.com/datasheets/2064195.pdf?src-supplier=Farnell; ComponentLink1Description: http://www.farnell.com/datasheets/2064195.pdf?src-supplier=Farnell; ComponentLink2URL: http://www.st.com/content/ccc/resource/technical/document/data_brief/b1/d8/13/d4/b0/b7/4b/6e/DM00214578.pdf/files/DM00214578.pdf/jcr:content/translations/en.DM00214578.pdf?src-supplier=Digi-Key; ComponentLink2Description: http://www.st.com/content/ccc/resource/technical/document/data_brief/b1/d8/13/d4/b0/b7/4b/6e/DM00214578.pdf/files/DM00214578.pdf/jcr:content/translations/en.DM00214578.pdf?src-supplier=Digi-Key; ComponentLink3URL: http://www.farnell.com/datasheets/1966773.pdf?src-supplier=Element14; ComponentLink3Description: http://www.farnell.com/datasheets/1966773.pdf?src-supplier=Element14; ComponentLink4URL: http://www.farnell.com/datasheets/2064195.pdf?src-supplier=Newark; ComponentLink4Description: http://www.farnell.com/datasheets/2064195.pdf?src-supplier=Newark; ComponentLink5URL: http://www.st.com/st-web-ui/static/active/en/resource/technical/document/user_manual/DM00116575.pdf?s_searchtype=keyword&src-supplier=Avnet+Asia; ComponentLink5Description: http://www.st.com/st-web-ui/static/active/en/resource/technical/document/user_manual/DM00116575.pdf?s_searchtype=keyword&src-supplier=Avnet+Asia; ComponentLink6URL: http://www.st.com/st-web-ui/static/active/en/resource/technical/document/user_manual/DM00116575.pdf?s_searchtype=keyword&src-supplier=Avnet; ComponentLink6Description: http://www.st.com/st-web-ui/static/active/en/resource/technical/document/user_manual/DM00116575.pdf?s_searchtype=keyword&src-supplier=Avnet; Supplier Part Number 1: 497-15981-ND; Supplier 2: Newark; Stock 2: 56; Pricing 2: 1=12.40000 (USD); ComponentLink7URL: http://www.farnell.com/datasheets/2064195.pdf?src-supplier=Element14; ComponentLink7Description: http://www.farnell.com/datasheets/2064195.pdf?src-supplier=Element14
footprint NUCLEO-L432KC
part A pins: 3.1 PA9, 3.2 PA10, 3.3 NRST, 3.4 GND, 3.5 PA12, 3.6 PB0, 3.7 PB7, 3.8 PB6, 3.9 PB1, 3.10 PF0, 3.11 PF1, 3.12 PA8, 3.13 PA11, 3.14 PB5, 3.15 PB4
part B pins: 4.1 VIN, 4.2 GND, 4.3 NRST, 4.4 POS5V, 4.5 PA2, 4.6 PA7, 4.7 PA6, 4.8 PA5, 4.9 PA4, 4.10 PA3, 4.11 PA1, 4.12 PA0, 4.13 AREF, 4.14 POS3V3, 4.15 PB3

## RCLAMP0508M.TBT
designator U?  Supplier Part Number 1: RCLAMP0508MCT-ND
TVS DIODE 5VWM 25VC 10MSOP; Manufacturer: Semtech; Manufacturer Part Number: RCLAMP0508M.TBT; Direction: Unidirectional; Clamping Voltage: 25V; Working Voltage: 5V; Number of Bidirectional Channels: 8; Min Breakdown Voltage: 6V; Peak Pulse Power: 300W; Power Line Protection: Yes; Leakage Current: 5uA; Peak Pulse Current: 12A; Capacitance: 3pF; Number of Elements: 1; Test Current: 1mA; Supplier 1: Digi-Key; Stock 1: 4791; Pricing 1: 1=2.89000, 10=2.59300, 25=2.44640, 100=2.08420, 250=1.95700 (USD); RoHS: Yes; Mount: Surface Mount; Case/Package: MSOP; Number of Pins: 10; Min Operating Temperature: -55°C; Max Operating Temperature: 125°C; Packaging: Tape and Reel; Reverse Standoff Voltage: 5V; Number of Channels: 8; Reverse Breakdown Voltage: 6V; Polarity: Unidirectional; Max Breakdown Voltage: 6V; Breakdown Voltage: 6V; Termination: SMD/SMT; Max Power Dissipation: 300W; Voltage Rating (DC): 5V; Operating Supply Voltage: 5V; Length: 3.1mm; Depth: 3.1mm; Width: 3mm; Radiation Hardening: No; REACH SVHC: No SVHC; Lead Free: Lead Free; ComponentLink1URL: https://datasheet.ciiva.com/339/rclamp0508m-339445.pdf?src-supplier=Digi-Key; ComponentLink1Description: https://datasheet.ciiva.com/339/rclamp0508m-339445.pdf?src-supplier=Digi-Key; ComponentLink2URL: https://datasheet.ciiva.com/339/rclamp0508m-339446.pdf?src-supplier=Digi-Key; ComponentLink2Description: https://datasheet.ciiva.com/339/rclamp0508m-339446.pdf?src-supplier=Digi-Key; ComponentLink3URL: https://datasheet.ciiva.com/8029/rclamp0508m-8029926.pdf?src-supplier=Element14; ComponentLink3Description: https://datasheet.ciiva.com/8029/rclamp0508m-8029926.pdf?src-supplier=Element14; ComponentLink4URL: https://datasheet.ciiva.com/339/rclamp0508m-339447.pdf?src-supplier=Digi-Key; ComponentLink4Description: https://datasheet.ciiva.com/339/rclamp0508m-339447.pdf?src-supplier=Digi-Key; ComponentLink5URL: https://datasheet.ciiva.com/16294/rclamp0508m-16294599.pdf?src-supplier=Future+Electronics; ComponentLink5Description: https://datasheet.ciiva.com/16294/rclamp0508m-16294599.pdf?src-supplier=Future+Electronics; ComponentLink6URL: https://datasheet.ciiva.com/5748/rclamp0508m-5748392.pdf?src-supplier=Farnell; ComponentLink6Description: https://datasheet.ciiva.com/5748/rclamp0508m-5748392.pdf?src-supplier=Farnell; ComponentLink7URL: https://datasheet.ciiva.com/11193/rclamp0508m-11193708.pdf?src-supplier=Avnet; ComponentLink7Description: https://datasheet.ciiva.com/11193/rclamp0508m-11193708.pdf?src-supplier=Avnet; ComponentLink8URL: https://datasheet.ciiva.com/25957/rclamp0508m-25957549.pdf?src-supplier=Avnet+Europe; ComponentLink8Description: https://datasheet.ciiva.com/25957/rclamp0508m-25957549.pdf?src-supplier=Avnet+Europe
footprint SSOP50P490X175-10N (SSOP, 10-Leads, Body 3.00x3.00mm, Pitch 0.50mm, IPC Medium Density)
pins: 1 Line1, 2 Line2, 3 VCC, 4 Line3, 5 Line4, 6 GND, 7 Line5, 8 Line6, 9 Line7, 10 Line8

## REF194GSZ
designator U?  Supplier Part Number 1: REF194GSZ-ND
IC VREF SERIES 4.5V 8SOIC; Manufacturer: Analog Devices; Manufacturer Part Number: REF194GSZ; Max Input Voltage: 18V; Max Output Current: 30mA; Temperature Coefficient: 25ppm/°C; Number of Channels: 1; Min Output Voltage: 4.49V; Operating Supply Current: 45uA; Quiescent Current: 15uA; Min Input Voltage: 4.75V; Supplier 1: Digi-Key; Stock 1: 359; Pricing 1: 1=3.56000, 10=3.19700, 25=3.02240, 100=2.61940, 250=2.48512, 500=2.22988, 1000=1.88062, 2500=1.78659 (USD); RoHS: Yes; Case/Package: R; Number of Pins: 8; Min Operating Temperature: -40°C; Max Operating Temperature: 85°C; Output Voltage: 4.5V; Packaging: Rail/Tube; Output Current: 30mA; Max Output Voltage: 4.5V; Reference Type: Series; Package Quantity: 98; Nominal Supply Current: 45uA; Reference Voltage: 4.5V; Length: 5mm; Height: 1.5mm; Width: 4mm; Radiation Hardening: No; Lead Free: Contains Lead; REACH SVHC: No SVHC; ComponentLink1URL: https://datasheet.ciiva.com/17219/ref19xseries-17219157.pdf?src-supplier=Avnet+Europe; ComponentLink1Description: https://datasheet.ciiva.com/17219/ref19xseries-17219157.pdf?src-supplier=Avnet+Europe; ComponentLink2URL: https://datasheet.ciiva.com/22666/1506113-22666153.pdf?src-supplier=Element14; ComponentLink2Description: https://datasheet.ciiva.com/22666/1506113-22666153.pdf?src-supplier=Element14; ComponentLink3URL: https://datasheet.ciiva.com/2005/ref19xseries-2005902.pdf?src-supplier=Digi-Key; ComponentLink3Description: https://datasheet.ciiva.com/2005/ref19xseries-2005902.pdf?src-supplier=Digi-Key; ComponentLink4URL: https://datasheet.ciiva.com/3235/ref19xseries-3235518.pdf?src-supplier=Avnet; ComponentLink4Description: https://datasheet.ciiva.com/3235/ref19xseries-3235518.pdf?src-supplier=Avnet
footprint SOP127P600X175-8N (SOP, 8-Leads, Body 4.91x3.90mm, Pitch 1.27mm, IPC Medium Density)
pins: 1 TP, 2 VS, 3 nSLEEP, 4 GND, 5 TP, 6 OUTPUT, 7 NC, 8 NC

## REF195ESZ-REEL
designator U?  Supplier Part Number 1: REF195ESZ-REELCT-ND
IC VREF SERIES 5V 8SOIC; Manufacturer: Analog Devices; Manufacturer Part Number: REF195ESZ-REEL; Output Current: 30mA; Max Input Voltage: 18V; Temperature Coefficient: 5ppm/°C; Operating Supply Current: 45uA; Output Type: Fixed; Tolerance: 0.04%; Number of Channels: 1; Quiescent Current: 15uA; Supplier 1: Digi-Key; Stock 1: 3143; Pricing 1: 1=5.98000, 10=5.37300, 25=5.07920, 100=4.40200, 250=4.17628, 500=3.74736, 1000=3.16043 (USD); RoHS: Yes; Case/Package: R; Number of Pins: 8; Min Operating Temperature: -40°C; Max Operating Temperature: 85°C; Output Voltage: 5V; Packaging: Tape and Reel; Max Output Current: 30mA; Min Output Voltage: 5V; Max Output Voltage: 5V; Reference Type: Series; Package Quantity: 1; Nominal Supply Current: 45uA; Radiation Hardening: No; Lead Free: Contains Lead; ComponentLink1URL: https://datasheet.ciiva.com/18553/ref19xseries-18553222.pdf?src-supplier=Digi-Key; ComponentLink1Description: https://datasheet.ciiva.com/18553/ref19xseries-18553222.pdf?src-supplier=Digi-Key; ComponentLink2URL: https://datasheet.ciiva.com/17217/ref19xseries-17217847.pdf?src-supplier=Avnet+Europe; ComponentLink2Description: https://datasheet.ciiva.com/17217/ref19xseries-17217847.pdf?src-supplier=Avnet+Europe; ComponentLink3URL: https://datasheet.ciiva.com/18553/ref19xseries-18553224.pdf?src-supplier=Digi-Key; ComponentLink3Description: https://datasheet.ciiva.com/18553/ref19xseries-18553224.pdf?src-supplier=Digi-Key; ComponentLink4URL: https://datasheet.ciiva.com/18553/ref19xseries-18553223.pdf?src-supplier=Digi-Key; ComponentLink4Description: https://datasheet.ciiva.com/18553/ref19xseries-18553223.pdf?src-supplier=Digi-Key; ComponentLink5URL: https://datasheet.ciiva.com/8132/ref19xseries-8132713.pdf?src-supplier=Avnet; ComponentLink5Description: https://datasheet.ciiva.com/8132/ref19xseries-8132713.pdf?src-supplier=Avnet
footprint SOP127P600X175-8N (SOP, 8-Leads, Body 4.91x3.90mm, Pitch 1.27mm, IPC Medium Density)
pins: 1 TP, 2 VS, 3 nSLEEP, 4 GND, 5 TP, 6 OUTPUT, 7 NC, 8 NC

## SI4214DDY-T1-GE3
designator U?
Mosfet Array 2 N-Channel (Dual) 30V 8.5A 3.1W Surface Mount 8-SO; Manufacturer_Part_Number: SI4214DDY-T1-GE3; Vendor: Vishay; Rds(on): 0.0195; I_D (A): 8.5; RefDes: U; Type: DEV; Value: Value; Digikey P/N: SI4214DDY-T1-GE3CT-ND; ComponentLink1Description: Digikey; ComponentLink1URL: https://www.digikey.com/product-detail/en/vishay-siliconix/SI4214DDY-T1-GE3/SI4214DDY-T1-GE3CT-ND/3305376; V_DS: 30V; ComponentLink2Description: Datasheet; ComponentLink2URL: http://www.vishay.com/docs/67907/si4214ddy-t1-e3.pdf
footprint SOIC-8_SI-L
part A pins: 1 S1, 2 G1, 7 D1, 8 D1
part B pins: 3 S2, 4 G2, 5 D2, 6 D2

## SLG46826
designator U?  Supplier Part Number 1: 03AH3078
GreenPAK Programmable Mixed Signal Matrix with In-System Programmability; Manufacturer: Dialog Semiconductor; Manufacturer Part Number: SLG46826V-SKT; Supplier 1: Newark; Stock 1: 4; Pricing 1: 1=45.65000, 5=44.43000, 10=43.15000, 25=42.51000, 50=41.89000, 100=39.38000 (USD); RoHS: No
footprint SOP65P640X175-20N (SOP, 20-Leads, Body 6.50x4.40mm, Pitch 0.65mm, IPC Medium Density)
pins: 1 IO14, 2 IO13, 3 IO12, 4 IO11, 5 IO10, 6 IO9, 7 VDD2, 8 IO8, 9 IO7, 10 GND, 11 IO6, 12 SDA, 13 SCL, 14 IO5, 15 IO4, 16 IO3, 17 IO2, 18 IO1, 19 IO0, 20 VDD

## SN65HVD256
designator U?
IC TXRX CAN 5V HS 8SOIC; Manufacturer: TI; Manufacturer P/N: SN65HVD256DR; Digikey P/N: 296-30093-1-ND; Digikey Link: https://www.digikey.com/product-detail/en/texas-instruments/SN65HVD256DR/296-30093-1-ND/2798832
footprint SOIC127P630X175-8N (SOIC, 8-Leads, Body 4.90x3.90mm, Pitch 1.27mm, IPC Medium Density)
footprint SOIC127P610X280-8N (SOIC, 8-Leads, Body 5.10x4.10mm, Pitch 1.27mm, IPC Medium Density)
pins: 1 TXD (out), 2 GND (power), 3 VCC (power), 4 RXD (in), 5 VRXD (power), 6 CANL (io), 7 CANH (io), 8 S

## SN74LVC1G04DBVR
designator U?
Manufacturer: TI; Digikey Link: https://www.digikey.com/product-detail/en/texas-instruments/SN74LVC1G04DBVR/296-11599-1-ND/385738; Manufacturer P/N: SN74LVC1G04DBVR; Digikey P/N: 296-11599-1-ND
footprint DBV5-L
pins: 1 NC, 2 A (in), 3 GND (power), 4 Y (out), 5 VCC (power)

## SSCMNNN030PA2A3
designator U?
Honeywell Digital Pressure Sensor; ComponentLink1Description: Part; ComponentLink1URL: https://www.digikey.com/product-detail/en/honeywell-sensing-and-productivity-solutions/SSCMNNN030PA2A3/480-6407-ND/2416123; ComponentLink2Description: Datasheet; ComponentLink2URL: https://sensing.honeywell.com/index.php?ci_id=151134
footprint 8-SMT
pins: 1 GND (power), 2 VSS (power), 3 SDA, 4 SCL

## STL90N6F7
designator Q?
MOSFET N-CH 60V 90A F7 8PWRFLAT; Manufacturer: 497-15913-2-ND; Manufacturer P/N: STL90N6F7; Digikey Link: https://www.digikey.com/product-detail/en/stmicroelectronics/STL90N6F7/497-15913-1-ND/5357115; Digikey P/N: 497-15913-2-ND
footprint DPAK228P991X238-4N (D-PAK, 4-Pads, Body 6.21x6.54mm (max), IPC Medium Density)
pins: 1 S, 2 S, 3 S, 4 G, 5 D, 6 D, 7 D, 8 D

## TL072CDR
designator U?  Manufacturer Part Number: TL072CDR
IC OPAMP JFET 3MHZ 8SOIC; Manufacturer: Texas Instruments; Voltage Gain: 106.02dB; Min Dual Supply Voltage: 3.5V; Max Dual Supply Voltage: 18V; Nominal Supply Current: 5mA; Common Mode Rejection Ratio: 70dB; Number of Channels: 2; Slew Rate: 13V/µs; Max I/O Voltage: 10mV; Input Bias Current: 200pA; Operating Supply Current: 1.4mA; Dual Supply Voltage: 9V; Supplier 1: Digi-Key; Stock 1: 21821; Pricing 1: 1=0.41, 10=0.334, 100=0.2059, 500=0.1562, 1000=0.11715 (USD); Case/Package: D; Number of Pins: 8; Contact Plating: Gold; Min Operating Temperature: -40°C; Max Operating Temperature: 85°C; Package Quantity: 1; Packaging: Tape and Reel; Unity Gain Bandwidth Product: 3MHz; Bandwidth: 3MHz; Nominal Gain Bandwidth Product: 3MHz; Number of Circuits: 2; Gain Bandwidth Product: 3MHz; Input Offset Voltage (Vos): 10mV; Number of Elements: 2; Max Supply Voltage: 18V; Number of Amplifiers: 2; Length: 4.9mm; Height: 1.58mm; Width: 3.91mm; Radiation Hardening: No; Lead Free: Lead Free; REACH SVHC: No SVHC; ComponentLink1URL: http://www.ti.com/lit/ds/symlink/tl071a.pdf?src-supplier=Digi-Key; ComponentLink1Description: http://www.ti.com/lit/ds/symlink/tl071a.pdf?src-supplier=Digi-Key; ComponentLink2URL: http://www.ti.com/general/docs/lit/getliterature.tsp?genericPartNumber=TL072&&fileType=pdf&src-supplier=Avnet; ComponentLink2Description: http://www.ti.com/general/docs/lit/getliterature.tsp?genericPartNumber=TL072&&fileType=pdf&src-supplier=Avnet; ComponentLink3URL: http://www.farnell.com/datasheets/1882732.pdf?src-supplier=Element14; ComponentLink3Description: http://www.farnell.com/datasheets/1882732.pdf?src-supplier=Element14; Supplier Part Number 1: 296-1282-6-ND
footprint SOP127P600X175-8N (SOP, 8-Leads, Body 4.91x3.90mm, Pitch 1.27mm, IPC Medium Density)
part A pins: 1 OUT, 2 IN-, 3 IN+, 4 V- (power), 8 V+ (power)
part B pins: 5 IN+, 6 IN-, 7 OUT

## TPC817
designator U?
OPTOISO 5KV TRANS 4SOP; Manufacturer: Taiwan Semi; Manufacturer P/N: TPC817S1B RAG; Digikey Link: https://www.digikey.com/product-detail/en/taiwan-semiconductor-corporation/TPC817S1B-RAG/TPC817S1BRAGCT-ND/7359679; Digikey P/N: TPC817S1BRAGCT-ND
footprint SOT200P1005X328-5N (SOT23, 5-Leads, Body 4.60x10.05mm, Pitch 2.00mm, IPC Medium Density)
pins: 1 LED+, 2 LED-, 3 E, 4 C

## TPS3701DDCT
designator U?  Manufacturer Part Number: TPS3701DDCT
IC COMP WINDOW W/REF 6SOT; Manufacturer: Texas Instruments; Min Supply Voltage: 1.8V; Max Supply Voltage: 36V; Number of Elements: 1; Quiescent Current: 11uA; Propagation Delay: 28.1us; Hysteresis: 5.5mV; Response Time: 155us; Supplier 1: Digi-Key; Stock 1: 2174; Pricing 1: 1=2.74, 10=2.459, 25=2.32, 100=1.8561 (USD); Mount: Surface Mount; Case/Package: SOT-23-6; Number of Pins: 6; Min Operating Temperature: -40°C; Max Operating Temperature: 125°C; Packaging: Tape and Reel; REACH SVHC: No SVHC; Lead Free: Lead Free; ComponentLink1URL: http://www.ti.com/general/docs/lit/getliterature.tsp?genericPartNumber=TPS3701&amp;&amp;fileType=pdf&src-supplier=Farnell; ComponentLink1Description: http://www.ti.com/general/docs/lit/getliterature.tsp?genericPartNumber=TPS3701&amp;&amp;fileType=pdf&src-supplier=Farnell; ComponentLink2URL: http://www.ti.com/general/docs/lit/getliterature.tsp?genericPartNumber=TPS3701&&fileType=pdf&src-supplier=Element14; ComponentLink2Description: http://www.ti.com/general/docs/lit/getliterature.tsp?genericPartNumber=TPS3701&&fileType=pdf&src-supplier=Element14; ComponentLink3URL: http://www.ti.com/lit/ds/symlink/tps3701.pdf?src-supplier=Digi-Key; ComponentLink3Description: http://www.ti.com/lit/ds/symlink/tps3701.pdf?src-supplier=Digi-Key; ComponentLink4URL: http://www.ti.com/general/docs/lit/getliterature.tsp?genericPartNumber=TPS3701&&fileType=pdf&src-supplier=Avnet; ComponentLink4Description: http://www.ti.com/general/docs/lit/getliterature.tsp?genericPartNumber=TPS3701&&fileType=pdf&src-supplier=Avnet; ComponentLink5URL: http://www.ti.com/lit/gpn/tps3701?src-supplier=Mouser; ComponentLink5Description: http://www.ti.com/lit/gpn/tps3701?src-supplier=Mouser; Supplier Part Number 1: 296-38622-1-ND
footprint TSOP95P280X110-6N (TSOP, 6-Leads, Body 2.90x1.60mm, Pitch 0.95mm, IPC Medium Density)
pins: 1 OUTA, 2 GND, 3 INA, 4 INB, 5 VDD, 6 OUTB

## TPS5420
designator U?  Manufacturer Part Number: TPS5420D
5.5V to 36V Input, 2A, 500kHz Step-Down Converter; Manufacturer: Texas Instruments; Output Voltage: 31V; Quiescent Current: 3mA; Number of Outputs: 1; Synchronous Rectifier: No; Min Output Voltage: 1.23V; Output Type: Adjustable; Efficiency: 95%; Supplier 1: Digi-Key; Stock 1: 5221; Pricing 1: 1=3.78000, 10=3.39400, 75=3.20853, 150=2.78073, 525=2.36716, 1050=1.99640, 2550=1.89658, 5025=1.82528 (USD); RoHS: Yes; Case/Package: D; Number of Pins: 8; Weight: 0.002677oz; Min Operating Temperature: -40°C; Max Operating Temperature: 125°C; Output Current: 2A; Switching Frequency: 500kHz; Packaging: Rail/Tube; Package Quantity: 75; Max Input Voltage: 36V; Min Input Voltage: 5.5V; Max Output Voltage: 31V; Max Output Current: 2A; Operating Supply Voltage: 36V; Length: 4.9mm; Height: 1.58mm; Width: 3.91mm; Radiation Hardening: No; Lead Free: Lead Free; REACH SVHC: No SVHC; ComponentLink1URL: https://datasheet.ciiva.com/4880/slvs642c-120503-4880259.pdf?src-supplier=Mouser; ComponentLink1Description: https://datasheet.ciiva.com/4880/slvs642c-120503-4880259.pdf?src-supplier=Mouser; ComponentLink2URL: https://datasheet.ciiva.com/15113/getdatasheetpartid-188336-15113748.pdf?src-supplier=Verical; ComponentLink2Description: https://datasheet.ciiva.com/15113/getdatasheetpartid-188336-15113748.pdf?src-supplier=Verical; ComponentLink3URL: https://datasheet.ciiva.com/27051/1113040-27051457.pdf?src-supplier=Jameco; ComponentLink3Description: https://datasheet.ciiva.com/27051/1113040-27051457.pdf?src-supplier=Jameco; ComponentLink4URL: https://datasheet.ciiva.com/26896/tps5420d-26896666.pdf?src-supplier=IIIC; ComponentLink4Description: https://datasheet.ciiva.com/26896/tps5420d-26896666.pdf?src-supplier=IIIC; ComponentLink5URL: https://datasheet.ciiva.com/2026/tps5420-2026757.pdf?src-supplier=Digi-Key; ComponentLink5Description: https://datasheet.ciiva.com/2026/tps5420-2026757.pdf?src-supplier=Digi-Key; ComponentLink6URL: https://datasheet.ciiva.com/7993/1764415-7993820.pdf?src-supplier=Element14; ComponentLink6Description: https://datasheet.ciiva.com/7993/1764415-7993820.pdf?src-supplier=Element14; ComponentLink7URL: https://datasheet.ciiva.com/3220/tps5420-3220182.pdf?src-supplier=Avnet; ComponentLink7Description: https://datasheet.ciiva.com/3220/tps5420-3220182.pdf?src-supplier=Avnet; ComponentLink8URL: https://datasheet.ciiva.com/26248/tps5420-26248554.pdf?src-supplier=Avnet+Europe; ComponentLink8Description: https://datasheet.ciiva.com/26248/tps5420-26248554.pdf?src-supplier=Avnet+Europe; Supplier Part Number 1: 296-19671-5-ND
footprint SOP127P600X175-8N (SOP, 8-Leads, Body 4.91x3.90mm, Pitch 1.27mm, IPC Medium Density)
pins: 1 Boot, 2 NC (power), 3 NC, 4 VSNS (power), 5 EN, 6 GND, 7 VIN, 8 PH

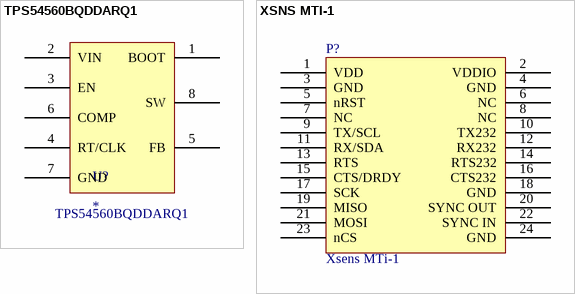
[diagram p2: symbols TPS54560BQDDARQ1 to XSNS MTI-1]

## TPS54560BQDDARQ1
designator U?  Manufacturer Part Number: TPS54560BQDDARQ1
IC REG BUCK SPLT ADJ 5A 8PWRSOIC; Manufacturer: Texas Instruments; Output Type: Adjustable; Output Configuration: Positive; Number of Outputs: 1; Min Input Voltage: 4.5V; Max Input Voltage: 60V; Min Output Voltage: 800mV; Max Output Voltage: 58.8V; Switching Frequency: 2.5MHz; Synchronous Rectifier: No; Supplier 1: Digi-Key; Stock 1: 1216; Pricing 1: 1=5.95, 10=5.347, 100=4.1559, 500=3.59428, 1000=2.98775 (USD); Mount: Surface Mount; Number of Pins: 8; Min Operating Temperature: -40°C; Max Operating Temperature: 125°C; Packaging: Tape and Reel; Output Current: 5A; ComponentLink1URL: http://www.ti.com/lit/ds/symlink/tps54560b-q1.pdf?src-supplier=Digi-Key; ComponentLink1Description: http://www.ti.com/lit/ds/symlink/tps54560b-q1.pdf?src-supplier=Digi-Key; Supplier Part Number 1: 296-45534-6-ND
footprint SOP127P600X175-8N - Thermal Pad
pins: 1 BOOT, 2 VIN, 3 EN, 4 RT/CLK, 5 FB, 6 COMP, 7 GND, 8 SW

## XSNS MTI-1
designator P?  (value not drawn)
MTi-3-8A7G6 3D AHRS/VRU/IMU Module; Manufacturer: Xsens; Manufacturer P/N: MTI-3-DK; Digikey Link: https://www.mouser.com/ProductDetail/Xsens/MTI-3-DK?qs=55YtniHzbhBGvlIRYNoxgQ%3d%3d; Digikey P/N: 512-MTI-3-DK
footprint MTI-3 (PinHeader 2x12 TH Pitch 2.54mm)
pins: 1 VDD, 2 VDDIO, 3 GND, 4 GND, 5 nRST, 6 NC, 7 NC, 8 NC, 9 TX/SCL, 10 TX232, 11 RX/SDA, 12 RX232, 13 RTS, 14 RTS232, 15 CTS/DRDY, 16 CTS232, 17 SCK, 18 GND, 19 MISO, 20 SYNC OUT, 21 MOSI, 22 SYNC IN, 23 nCS, 24 GND
text: Xsens MTi-1